# Altium integrated library GRM31C5C1E104GA01L.IntLib: 1 symbol
Pins are listed as number, name and electrical type; pins without a type are passive.

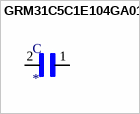
[diagram p0: symbol GRM31C5C1E104GA01L]

## GRM31C5C1E104GA01L
designator C
.1uf 25v 2% 1206; MP: GRM31C5C1E104GA01L; MF: Murata; Package: 1206 Murata; SnapEDA_Link: https://www.snapeda.com/parts/GRM31C5C1E104GA01L/Murata/view-part/2036817/?ref=snap; Availability: Unavailable; Price: None; Value: *
footprint CAPC3216X190
pins: 1, 2